# Altium footprint library CK45.PcbLib: 1 footprints
Each footprint in its own frame and in the unit in brackets; x right, y up, seen from the top. Pads: shape width x height; smd on the part's side, far side on the other; paste and mask are expansions set on the pad; w line width, h text height; cw(c..) or ccw(c..) is an arc to the next point about the centre after c.
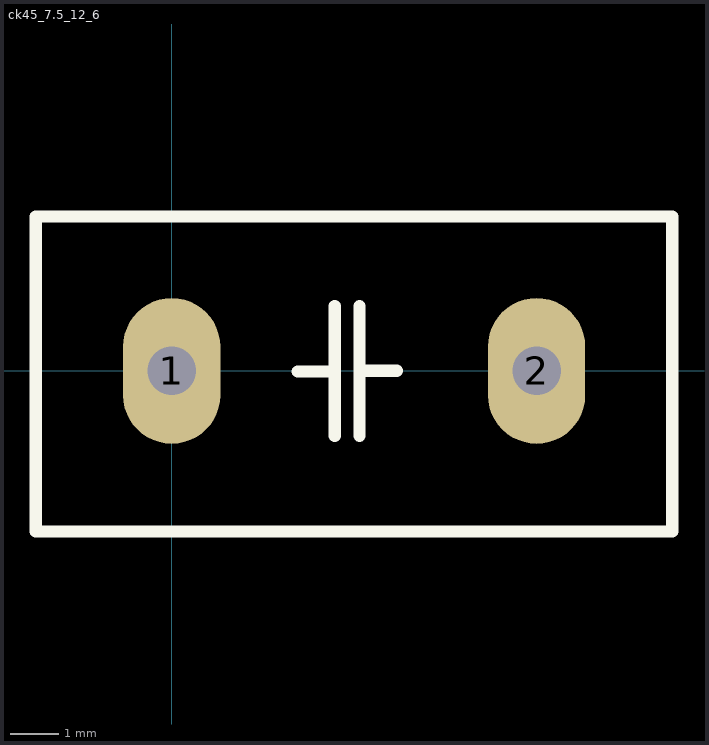
[diagram p0: the footprint, top view; thin cyan lines are the x and y axes]

## ck45_7.5_12_6 [mm]
pads (2):
  oval 2x3 hole 1: 1(0,0) 2(7.5,0)
Top Overlay:
  lines w0.254: 2.591,-0.011 3.353,-0.011 3.353,1.333 ; 3.353,-1.333 3.353,0.064 ; 3.861,-1.333 3.861,1.333 ; 3.861,0 4.623,0 ; -2.794,-3.302 10.287,-3.302 10.287,3.175 -2.54,3.175 -2.794,3.175 -2.794,-3.302
3D body: height 0.25, standoff 0, extent 4,0 4,0
3D body "CK45.stp": height 17.25, standoff -2.25, extent -2.44,-3.079 10.06,2.921